# EAGLE library part LT8722AV#PBF (library LT8722AV#PBF)
Demonstration circuit 3145A demonstrates a high efficiency thermoelectric cooler driver and features the LT8722 monolithic driver. Source: Datasheet <https://www.analog.com/media/en/technical-documentation/data-sheets/lt8722.pdf>
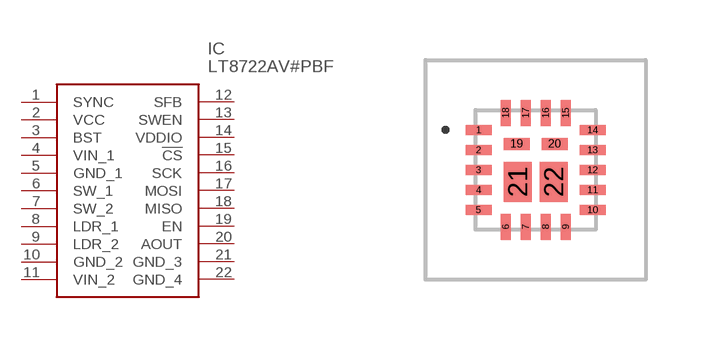
[diagram p0: symbol with the pads of LT8722AVPBF; footprint LT8722AVPBF]

Designator prefix IC

## LT8722AV#PBF (Description: Demonstration circuit 3145A demonstrates a high efficiency thermoelectric cooler driver and features the LT8722 monolithic driver.; Height: 1.05mm; Manufacturer_Name: Analog Devices; Manufacturer_Part_Number: LT8722AV#PBF; Mouser_Part_Number: 584-LT8722AVPBF; Mouser_Price-Stock: https://www.mouser.co.uk/ProductDetail/Analog-Devices/LT8722AVPBF?qs=4ASt3YYao0VrHs25JzE8rA%3D%3D)  [LT8722AVPBF]
1  SYNC
2  VCC
3  BST
4  VIN_1
5  GND_1
6  SW_1
7  SW_2
8  LDR_1
9  LDR_2
10  GND_2
11  VIN_2
12  SFB
13  SWEN
14  VDDIO
15  !CS
16  SCK
17  MOSI
18  MISO
19  EN
20  AOUT
21  GND_3
22  GND_4

## Footprint LT8722AVPBF (pad centres in mm)
18 Lead LQFN(3mm × 3mm)
smd 0.65 x 0.25: 1 -1.425,1; 2 -1.425,0.5; 3 -1.425,0; 4 -1.425,-0.5; 5 -1.425,-1; 10 1.425,-1; 11 1.425,-0.5; 12 1.425,0; 13 1.425,0.5; 14 1.425,1
smd 0.25 x 0.65: 6 -0.75,-1.425; 7 -0.25,-1.425; 8 0.25,-1.425; 9 0.75,-1.425; 15 0.75,1.425; 16 0.25,1.425; 17 -0.25,1.425; 18 -0.75,1.425
smd 0.65 x 0.3: 19 -0.475,0.65; 20 0.475,0.65
smd 0.7 x 1: 21 -0.45,-0.3; 22 0.45,-0.3